# EAGLE library part TPS62740 (library TPS62740)
TPS62740- BUCK Converter
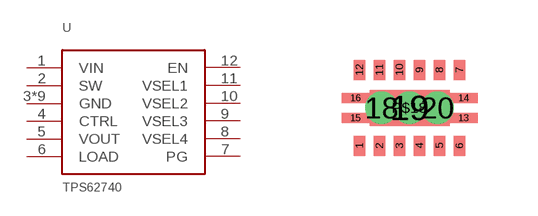
[diagram p0: symbol with the pads of DSS; footprint DSS]

Designator prefix U

## TPS62740  [DSS]
1  VIN
2  SW
3  GND
4  CTRL
5  VOUT
6  LOAD
7  PG
8  VSEL4
9  VSEL3
10  VSEL2
11  VSEL1
12  EN
13  GND
14  GND
15  GND
16  GND
18  GND
19  GND
20  GND
P$18  GND

## Footprint DSS (pad centres in mm)
smd 0.28 x 0.5: 1 0,0; 2 0.5,0; 3 1,0; 4 1.5,0; 5 2,0; 6 2.5,0; 7 2.5,1.9; 8 2,1.9; 9 1.5,1.9; 10 1,1.9; 11 0.5,1.9; 12 0,1.9
smd 0.7 x 0.25: 13 2.6,0.7; 14 2.6,1.2; 15 -0.1,0.7; 16 -0.1,1.2
drill 0.3 pad 0.406: 18 0.55,0.95; 20 1.95,0.95; P$18 1.25,0.95
smd 2 x 0.9: 19 1.25,0.95